# Altium schematic symbol library XCF04SVO20C.Schlib: 1 symbol
Pins are listed as number, name and electrical type; pins without a type are passive.

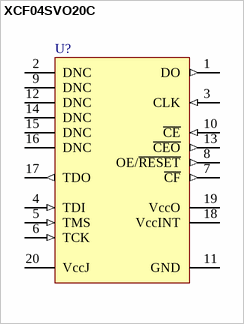
[diagram p0: symbol XCF04SVO20C]

## XCF04SVO20C
designator U?
Platform Flash In-System Programmable Configuration PROM; Package Information: Latest Revision: ver11.0, Feb-2003; Configures: APEX II, APEX 20K, Mercury, ACEX 1K & FLEX Devices; Code - JEDEC: MS-026-ABA; Published: 17-Sep-2003; Datasheet: Latest Revision: ver1.1, Oct-2003; Package Reference: TQFP32; Publisher: Altium Limited
footprint TSSOP-20 (Footprint not found)
pins: 1 DO (out), 2 DNC, 3 CLK (in), 4 TDI (in), 5 TMS (in), 6 TCK (in), 7 ~{CF} (out) "Open Drain Output", 8 OE/~{RESET} (out) "Open Drain Output", 9 DNC, 10 ~{CE} (in), 11 GND (power), 12 DNC, 13 ~{CEO} (out), 14 DNC, 15 DNC, 16 DNC, 17 TDO (out), 18 VccINT (power) "3V3 for internal voltage", 19 VccO (power) "3V3, 2V5, 1V8 output driver supply", 20 VccJ (power) "3V3 or 2V5 JTAG voltage"